# EAGLE library part FCI_AIRMAX_90_10034251 (library FCI)
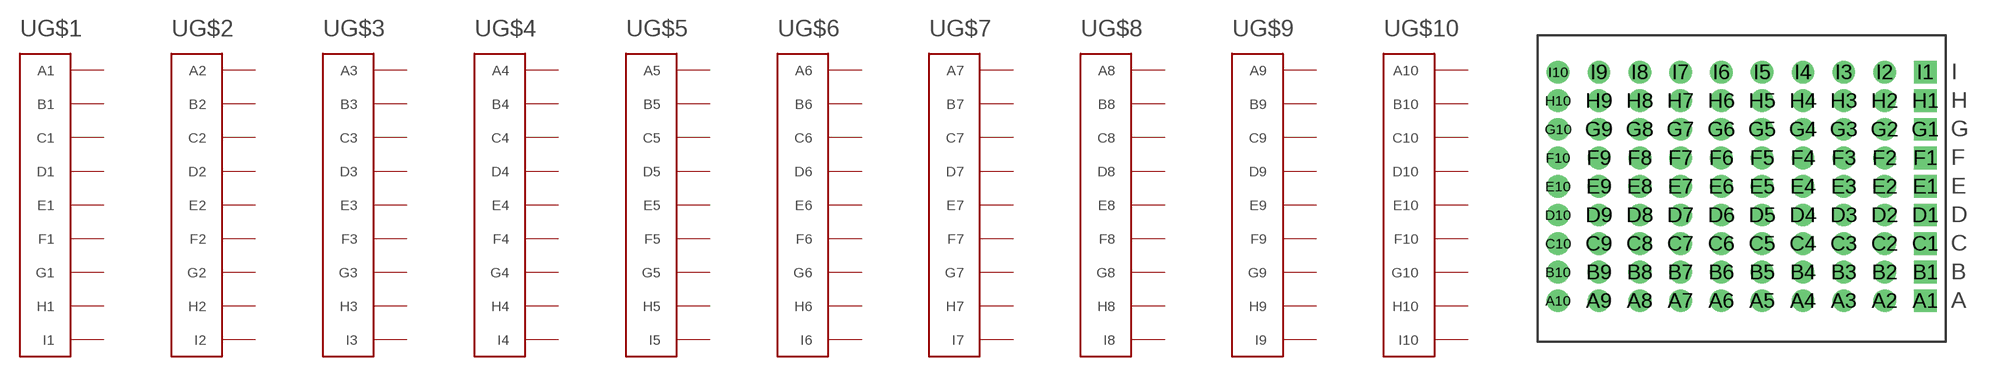
[diagram p0: symbol with the pads of FCI_10034251; footprint FCI_10034251]

Designator prefix -; gates G$1=FCI_AIRMAX_90_ROW1 G$2=FCI_AIRMAX_90_ROW2 G$3=FCI_AIRMAX_90_ROW3 G$4=FCI_AIRMAX_90_ROW4 G$5=FCI_AIRMAX_90_ROW5 G$6=FCI_AIRMAX_90_ROW6 G$7=FCI_AIRMAX_90_ROW7 G$8=FCI_AIRMAX_90_ROW8 G$9=FCI_AIRMAX_90_ROW9 G$10=FCI_AIRMAX_90_ROW10

## FCI_AIRMAX_90_10034251  [FCI_10034251]
A1  G$1:A1
A2  G$2:A2
A3  G$3:A3
A4  G$4:A4
A5  G$5:A5
A6  G$6:A6
A7  G$7:A7
A8  G$8:A8
A9  G$9:A9
A10  G$10:A10
B1  G$1:B1
B2  G$2:B2
B3  G$3:B3
B4  G$4:B4
B5  G$5:B5
B6  G$6:B6
B7  G$7:B7
B8  G$8:B8
B9  G$9:B9
B10  G$10:B10
C1  G$1:C1
C2  G$2:C2
C3  G$3:C3
C4  G$4:C4
C5  G$5:C5
C6  G$6:C6
C7  G$7:C7
C8  G$8:C8
C9  G$9:C9
C10  G$10:C10
D1  G$1:D1
D2  G$2:D2
D3  G$3:D3
D4  G$4:D4
D5  G$5:D5
D6  G$6:D6
D7  G$7:D7
D8  G$8:D8
D9  G$9:D9
D10  G$10:D10
E1  G$1:E1
E2  G$2:E2
E3  G$3:E3
E4  G$4:E4
E5  G$5:E5
E6  G$6:E6
E7  G$7:E7
E8  G$8:E8
E9  G$9:E9
E10  G$10:E10
F1  G$1:F1
F2  G$2:F2
F3  G$3:F3
F4  G$4:F4
F5  G$5:F5
F6  G$6:F6
F7  G$7:F7
F8  G$8:F8
F9  G$9:F9
F10  G$10:F10
G1  G$1:G1
G2  G$2:G2
G3  G$3:G3
G4  G$4:G4
G5  G$5:G5
G6  G$6:G6
G7  G$7:G7
G8  G$8:G8
G9  G$9:G9
G10  G$10:G10
H1  G$1:H1
H2  G$2:H2
H3  G$3:H3
H4  G$4:H4
H5  G$5:H5
H6  G$6:H6
H7  G$7:H7
H8  G$8:H8
H9  G$9:H9
H10  G$10:H10
I1  G$1:I1
I2  G$2:I2
I3  G$3:I3
I4  G$4:I4
I5  G$5:I5
I6  G$6:I6
I7  G$7:I7
I8  G$8:I8
I9  G$9:I9
I10  G$10:I10

## Footprint FCI_10034251 (pad centres in mm)
drill 0.6 square: A1 18,0; B1 18,1.4; C1 18,2.8; D1 18,4.2; E1 18,5.6; F1 18,7; G1 18,8.4; H1 18,9.8; I1 18,11.2
drill 0.6: A2 16,0; A3 14,0; A4 12,0; A5 10,0; A6 8,0; A7 6,0; A8 4,0; A9 2,0; A10 0,0; B2 16,1.4; B3 14,1.4; B4 12,1.4; B5 10,1.4; B6 8,1.4; B7 6,1.4; B8 4,1.4; B9 2,1.4; B10 0,1.4; C2 16,2.8; C3 14,2.8; C4 12,2.8; C5 10,2.8; C6 8,2.8; C7 6,2.8; C8 4,2.8; C9 2,2.8; C10 0,2.8; D2 16,4.2; D3 14,4.2; D4 12,4.2; D5 10,4.2; D6 8,4.2; D7 6,4.2; D8 4,4.2; D9 2,4.2; D10 0,4.2; E2 16,5.6; E3 14,5.6; E4 12,5.6; E5 10,5.6; E6 8,5.6; E7 6,5.6; E8 4,5.6; E9 2,5.6; E10 0,5.6; F2 16,7; F3 14,7; F4 12,7; F5 10,7; F6 8,7; F7 6,7; F8 4,7; F9 2,7; F10 0,7; G2 16,8.4; G3 14,8.4; G4 12,8.4; G5 10,8.4; G6 8,8.4; G7 6,8.4; G8 4,8.4; G9 2,8.4; G10 0,8.4; H2 16,9.8; H3 14,9.8; H4 12,9.8; H5 10,9.8; H6 8,9.8; H7 6,9.8; H8 4,9.8; H9 2,9.8; H10 0,9.8; I2 16,11.2; I3 14,11.2; I4 12,11.2; I5 10,11.2; I6 8,11.2; I7 6,11.2; I8 4,11.2; I9 2,11.2; I10 0,11.2